# Altium schematic symbol library SCH - DRIVER - SN6505BDBVR.SCHLIB: 1 symbol
Pins are listed as number, name and electrical type; pins without a type are passive.

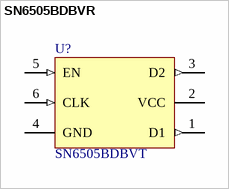
[diagram p0: symbol SN6505BDBVR]

## SN6505BDBVR
designator U?, comment SN6505BDBVT
footprint SOT95P280X145-6N
pins: 1 D1 (out), 2 VCC (power), 3 D2 (out), 4 GND (power), 5 EN (in), 6 CLK (in)